# EAGLE library part 4G_MODULES_ (library KTRON_4G-DEV_BOARD)
This is the library for KTRON 4G development board, with this library you can use this dev board on your circuit. Buy online from KTRON India www.ktron.in
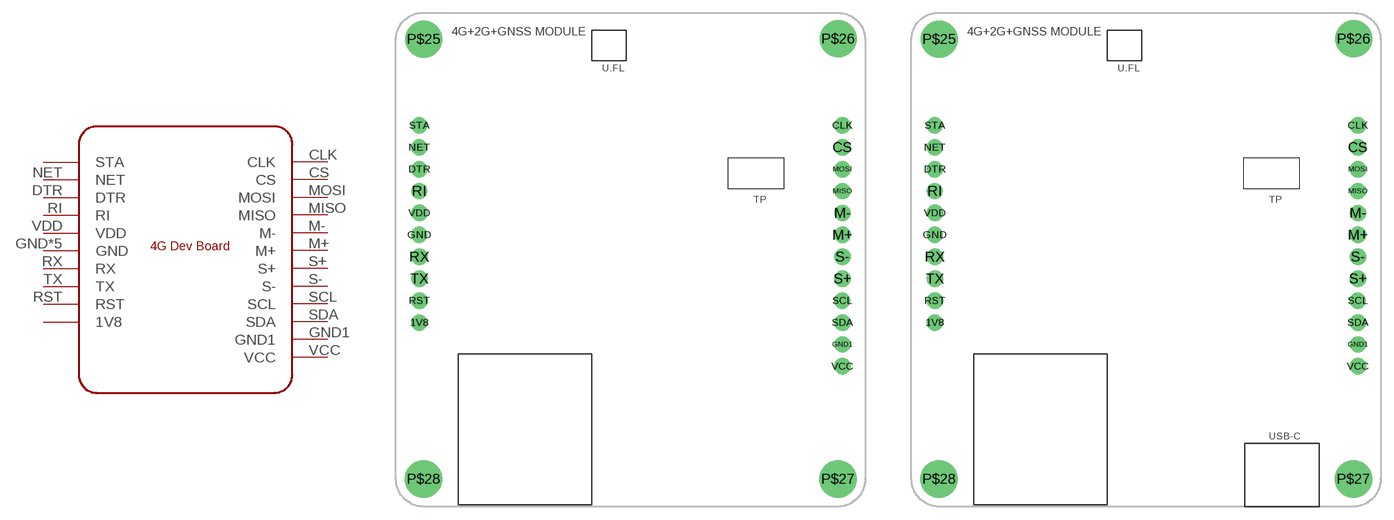
[diagram p0: symbol with the pads of A7670C&72S; footprints A7670C&72S, A7672G]

Designator prefix M

## 4G_MODULES_A7670C  [A7670C&72S]
1V8  1V8
CLK  CLK
CS  CS
DTR  DTR
GND  GND
GND1  GND1
M+  M+
M-  M-
MISO  MISO
MOSI  MOSI
NET  NET
P$25  GND
P$26  GND
P$27  GND
P$28  GND
RI  RI
RST  RST
RX  RX
S+  S+
S-  S-
SCL  SCL
SDA  SDA
STA  STA
TX  TX
VCC  VCC
VDD  VDD

## 4G_MODULES_A7672G  [A7672G]
1V8  1V8
CLK  CLK
CS  CS
DTR  DTR
GND  GND
GND1  GND1
M+  M+
M-  M-
MISO  MISO
MOSI  MOSI
NET  NET
P$25  GND
P$26  GND
P$27  GND
P$28  GND
RI  RI
RST  RST
RX  RX
S+  S-
S-  S+
SCL  SCL
SDA  SDA
STA  STA
TX  TX
VCC  VCC
VDD  VDD

## 4G_MODULES_A7672S_GNSS  [A7672S_GNSS]
Pads as for A7670C&72S

## 4G_MODULES_EC200U-CN  [EC200U-CN]
Pads as for A7670C&72S

## Footprint A7670C&72S (pad centres in mm)
drill 1 pad 1.9: 1V8 2.11,21.23; CLK 51.115,44.085; CS 51.11,41.545; DTR 2.11,39.005; GND 2.11,31.395; GND1 51.115,18.69; M+ 51.11,31.385; M- 51.115,33.925; MISO 51.11,36.47; MOSI 51.11,39.01; NET 2.11,41.535; RI 2.105,36.465; RST 2.12,23.765; RX 2.115,28.84; S+ 51.11,26.315; S- 51.11,28.855; SCL 51.105,23.77; SDA 51.11,21.225; STA 2.11,44.085; TX 2.115,26.305; VCC 51.115,16.15; VDD 2.115,33.93
drill 3.302 pad 4.32: P$25 2.62,54.085; P$26 50.63,54.125; P$27 50.61,3.095; P$28 2.615,3.095

## Footprint A7672G (pad centres in mm)
drill 1 pad 1.9: 1V8 3.25,21.945; CLK 52.255,44.8; CS 52.25,42.26; DTR 3.25,39.72; GND 3.25,32.11; GND1 52.255,19.405; M+ 52.25,32.1; M- 52.255,34.64; MISO 52.25,37.185; MOSI 52.25,39.725; NET 3.25,42.25; RI 3.245,37.18; RST 3.26,24.48; RX 3.255,29.555; S+ 52.25,27.03; S- 52.25,29.57; SCL 52.245,24.485; SDA 52.25,21.94; STA 3.25,44.8; TX 3.255,27.02; VCC 52.255,16.865; VDD 3.255,34.645
drill 3.302 pad 4.32: P$25 3.76,54.8; P$26 51.77,54.84; P$27 51.75,3.81; P$28 3.755,3.81

## Footprint A7672S_GNSS (pad centres in mm)
drill 1 pad 1.9: 1V8 2.11,21.23; CLK 51.115,44.085; CS 51.11,41.545; DTR 2.11,39.005; GND 2.11,31.395; GND1 51.115,18.69; M+ 51.11,31.385; M- 51.115,33.925; MISO 51.11,36.47; MOSI 51.11,39.01; NET 2.11,41.535; RI 2.105,36.465; RST 2.12,23.765; RX 2.115,28.84; S+ 51.11,26.315; S- 51.11,28.855; SCL 51.105,23.77; SDA 51.11,21.225; STA 2.11,44.085; TX 2.115,26.305; VCC 51.115,16.15; VDD 2.115,33.93
drill 3.302 pad 4.32: P$25 2.62,54.085; P$26 50.63,54.125; P$27 50.61,3.095; P$28 2.615,3.095

## Footprint EC200U-CN (pad centres in mm)
drill 1 pad 1.9: 1V8 2.145,21.245; CLK 51.15,44.1; CS 51.145,41.56; DTR 2.145,39.02; GND 2.145,31.41; GND1 51.15,18.705; M+ 51.145,31.4; M- 51.15,33.94; MISO 51.145,36.485; MOSI 51.145,39.025; NET 2.145,41.55; RI 2.14,36.48; RST 2.155,23.78; RX 2.15,28.855; S+ 51.145,26.33; S- 51.145,28.87; SCL 51.14,23.785; SDA 51.145,21.24; STA 2.145,44.1; TX 2.15,26.32; VCC 51.15,16.165; VDD 2.15,33.945
drill 3.302 pad 4.32: P$25 2.655,54.1; P$26 50.665,54.14; P$27 50.645,3.11; P$28 2.65,3.11